# Altium schematic symbol library SchLib.SchLib: 41 symbols
Pins are listed as number, name and electrical type; pins without a type are passive.

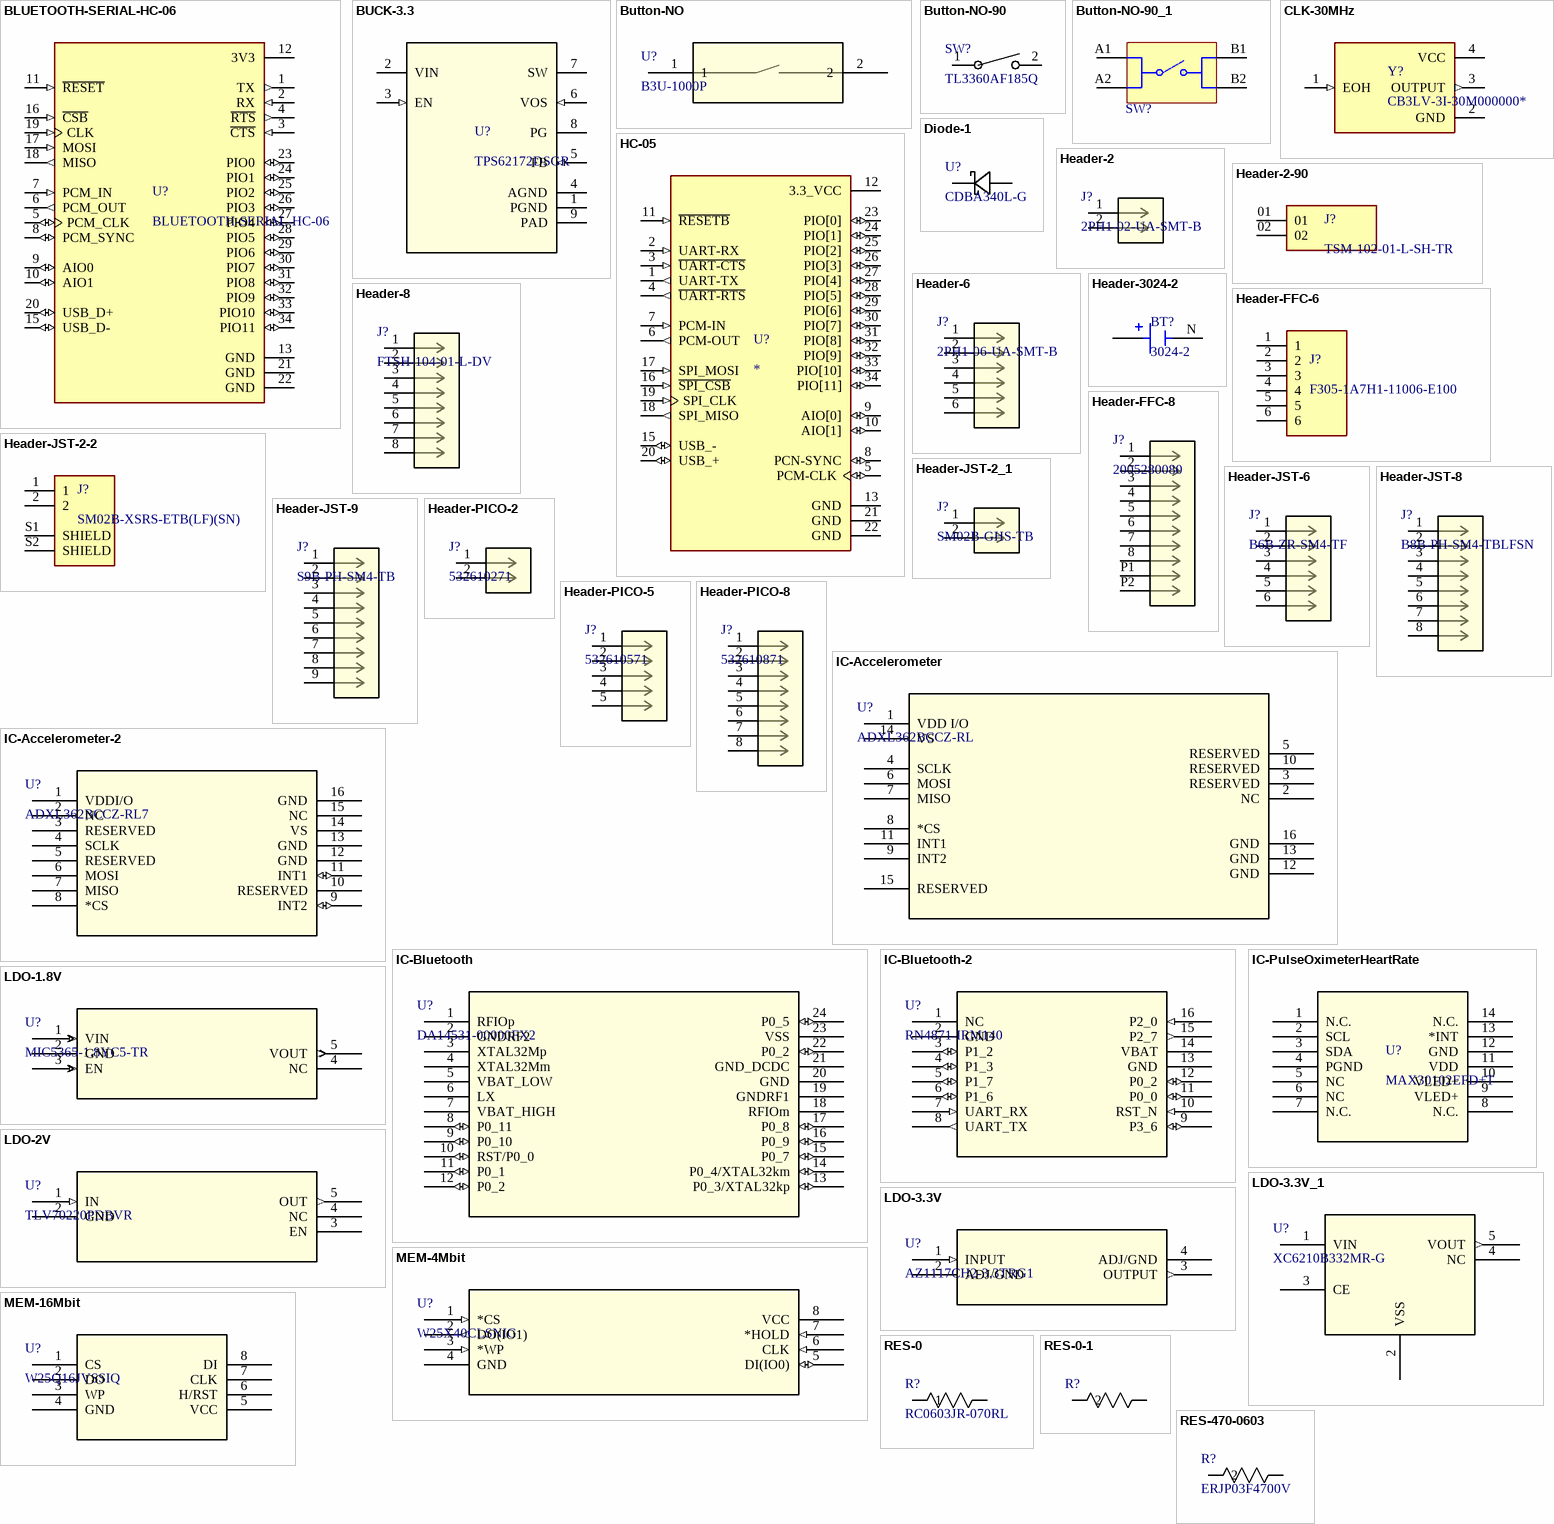
[diagram p0: symbols BLUETOOTH-SERIAL-HC-06 to RES-470-0603]

## BLUETOOTH-SERIAL-HC-06
designator U?
Bluetooth Modules (802.15.1) BLUETOOTH-SERIAL-HC-06; MF: Olimex; SnapEDA_Link: https://www.snapeda.com/parts/BLUETOOTH-SERIAL-HC-06/Olimex/view-part/?ref=snap; Package: None; Value: *; MP: BLUETOOTH-SERIAL-HC-06; Check_prices: https://www.snapeda.com/parts/BLUETOOTH-SERIAL-HC-06/Olimex/view-part/?ref=eda; ComponentLink1Description: Datasheet; ComponentLink1URL: https://pdf.dzsc.com/99999/2013328164949722.pdf
footprint XCVR_BLUETOOTH-SERIAL-HC-06
pins: 1 TX (out), 2 RX (in), 3 ~{CTS} (in), 4 ~{RTS} (out), 5 PCM_CLK (io), 6 PCM_OUT (out), 7 PCM_IN (in), 8 PCM_SYNC (io), 9 AIO0 (io), 10 AIO1 (io), 11 ~{RESET} (in), 12 3V3 (power), 13 GND (power), 15 USB_D- (io), 16 ~{CSB} (in), 17 MOSI (in), 18 MISO (out), 19 CLK (in), 20 USB_D+ (io), 21 GND (power), 22 GND (power), 23 PIO0 (io), 24 PIO1 (io), 25 PIO2 (io), 26 PIO3 (io), 27 PIO4 (io), 28 PIO5 (io), 29 PIO6 (io), 30 PIO7 (io), 31 PIO8 (io), 32 PIO9 (io), 33 PIO10 (io), 34 PIO11 (io)

## BUCK-3.3
designator U?, comment TPS62172DSGR
No Description Available; Mfr_Name: Texas Instruments; TYPE: TYPE; RefDes: RefDes; ComponentLink1Description: Datasheet; ComponentLink1URL: https://www.ti.com/lit/ds/symlink/tps62171.pdf?HQS=dis-dk-null-digikeymode-dsf-pf-null-wwe&ts=1742685058074&ref_url=https%253A%252F%252Fwww.ti.com%252Fgeneral%252Fdocs%252Fsuppproductinfo.tsp%253FdistId%253D10%2526gotoUrl%253Dhttps%253A%252F%252Fwww.ti.com%252Flit%252Fgpn%252Ftps62171
footprint DSG0008A_NV
pins: 1 PGND (power), 2 VIN (power), 3 EN (in), 4 AGND (power), 5 FB (in), 6 VOS (in), 7 SW (power), 8 PG (hiz), 9 PAD (power)

## Button-NO
designator U?, comment B3U-1000P
No Description Available; Mfr_Name: Omron; RefDes: RefDes; Type: Type; ComponentLink1Description: Datasheet; ComponentLink1URL: https://omronfs.omron.com/en_US/ecb/products/pdf/en-b3u.pdf
footprint B3U-1000P
pins: 1, 2

## Button-NO-90
designator SW?, comment TL3360AF185Q
No Description Available; Mfr_Name: E-Switch; ComponentLink1Description: Datasheet; ComponentLink1URL: https://configured-product-images.s3.amazonaws.com/Datasheets/TL3360.pdf
footprint SW_TL3360AF185Q_EWI
pins: 1, 2

## Button-NO-90_1
designator SW?, comment 434351045816  (value not drawn)
WS-TASU SMT Tact Switch 4.7x3.5mm side push, SPST-NO, 12VDC, 50mA, 160g; Manufacturer: Wurth Elektronik; Washable: No; ComponentLink1Description: Website Link; ComponentLink1URL: https://www.we-online.com/redexpert/article/434351045816?ad; ComponentLink2Description: Datasheet Link; ComponentLink2URL: https://www.we-online.com/redexpert/spec/434351045816?ad; Manufacturer Part Number: 434351045816; Category: Tact Switches; Match Code: WS-TASU; Mount: Surface Mount; Operating Temperature Max: 85°C; Operating Temperature Min: -40°C; Packaging: Tape and Reel; Length: 4.7mm; Width: 3.5mm; Height: 1.65mm; Circuit: SPST-NO; Contact Material: Stainless Steel; Contact Plating: Silver; Operation Force: 160g; Rated Current: 50mA; Rated Voltage: 12VDC; Terminal Material: Copper Alloy; Terminal Plating: Silver
footprint 434351045816
pins: A1, A2, B1, B2

## CLK-30MHz
designator Y?, comment CB3LV-3I-30M000000*
30 MHz XO (Standard) HCMOS, TTL Oscillator 3.3V Enable/Disable 4-SMD, No Lead; MF: {'manufacturer': u'CTS-Frequency Controls'}; Package: None; Price: None; Value: *; MP: CB3LV-3I-30M000000; Availability: Unavailable; ComponentLink1Description: Datasheet; ComponentLink1URL: https://www.ctscorp.com/Files/DataSheets/Passives/FCP/Clock-Oscillators/clock-ocillators-CB3_CB3LV-datasheet.pdf
footprint OSC_CB3LV-3I-30M000000
pins: 1 EOH (in), 2 GND (power), 3 OUTPUT (out), 4 VCC (power)

## Diode-1
designator U?, comment CDBA340L-G
Diode 40 V 3A Surface Mount DO-214AC (SMA); Mfr_Name: Comchip; ComponentLink1Description: Datasheet; ComponentLink1URL: https://mm.digikey.com/Volume0/opasdata/d220001/medias/docus/2443/CDBA320L-G%20%7E%20CDBA340L-G.pdf
footprint CDBA-G-M
pins: 1, 2

## HC-05
designator U?
Bluetooth to Serial Port Module; MF: ITead Studio; MP: HC-05; SnapEDA_Link: https://www.snapeda.com/parts/HC-05/ITEAD/view-part/?ref=snap; Package: Module ITead Studio; Value: *; Check_prices: https://www.snapeda.com/parts/HC-05/ITEAD/view-part/?ref=eda; ComponentLink1Description: Datasheet; ComponentLink1URL: https://components101.com/sites/default/files/component_datasheet/HC06%20Bluetooth%20Module%20Datasheet.pdf; ComponentLink2Description: Datasheet2; ComponentLink2URL: https://dcc-ex.com/reference/hardware/bluetooth/hc-05-06.html#gsc.tab=0
footprint XCVR_HC-05
pins: 1 UART-TX (out), 2 UART-RX (in), 3 ~{UART-CTS} (in), 4 ~{UART-RTS} (out), 5 PCM-CLK (io), 6 PCM-OUT (out), 7 PCM-IN (in), 8 PCN-SYNC (io), 9 AIO[0] (io), 10 AIO[1] (io), 11 ~{RESETB} (in), 12 3.3_VCC (power), 13 GND (power), 15 USB_- (io), 16 ~{SPI_CSB} (in), 17 SPI_MOSI (in), 18 SPI_MISO (out), 19 SPI_CLK (in), 20 USB_+ (io), 21 GND (power), 22 GND (power), 23 PIO[0] (io), 24 PIO[1] (io), 25 PIO[2] (io), 26 PIO[3] (io), 27 PIO[4] (io), 28 PIO[5] (io), 29 PIO[6] (io), 30 PIO[7] (io), 31 PIO[8] (io), 32 PIO[9] (io), 33 PIO[10] (io), 34 PIO[11] (io)

## Header-2
designator J?, comment 2PH1-02-UA-SMT-B
No Description Available; Mfr_Name: ADAM TECHNOLOGIES INC; RefDes: RefDes; Type: Type; ComponentLink1Description: Datasheet; ComponentLink1URL: https://app.adam-tech.com/products/download/data_sheet/200347/2ph1-xx-ua-smt-b-data-sheet.pdf
footprint CONN_2PH1-02-UA-SMT-B_ADM
pins: 1, 2

## Header-2-90
designator J?, comment TSM-102-01-L-SH-TR
MF: Samtec; Price: None; Availability: Unavailable; Package: None; MP: TSM-102-01-L-SH-TR; Value: *; ComponentLink1Description: Datasheet; ComponentLink1URL: https://suddendocs.samtec.com/catalog_english/tsm.pdf
footprint SAMTEC_TSM-102-01-L-SH-TR
pins: 01, 02

## Header-6
designator J?, comment 2PH1-06-UA-SMT-B
No Description Available; Mfr_Name: ADAM TECHNOLOGIES INC; RefDes: RefDes; Type: Type; ComponentLink1Description: Datasheet; ComponentLink1URL: https://app.adam-tech.com/products/download/data_sheet/200347/2ph1-xx-ua-smt-b-data-sheet.pdf
footprint CONN_2PH1_ADM
pins: 1, 2, 3, 4, 5, 6

## Header-8
designator J?, comment FTSH-104-01-L-DV
No Description Available; Mfr_Name: Samtec Inc; RefDes: RefDes; Type: Type; ComponentLink1Description: Datasheet; ComponentLink1URL: https://suddendocs.samtec.com/prints/ftsh-1xx-xx-xxx-dv-xxx-xxx-x-xx-mkt.pdf
footprint CON8_2X4_DU_FTSH_SAI
pins: 1, 2, 3, 4, 5, 6, 7, 8

## Header-3024-2
designator BT?, comment 3024-2
Price: None; MP: 3024-2; Package: None; Value: *; Availability: Unavailable; ComponentLink1Description: Datasheet; ComponentLink1URL: https://www.keyelco.com/userAssets/file/M65p8.pdf
footprint BAT_3024-2
pins: N NEG, P1 POS, P2 POS

## Header-FFC-6
designator J?, comment F305-1A7H1-11006-E100
Flex Connector, 0.50mm Pitch, Height 2.00mm, Right angle, Flip type, ZIF, 6 position, With MYLAR; MF: Amphenol ICC (FCI); Package: None; Price: None; Check_prices: https://www.snapeda.com/parts/F305-1A7H1-11006-E100/Amphenol+FCI/view-part/?ref=eda; Value: *; SnapEDA_Link: https://www.snapeda.com/parts/F305-1A7H1-11006-E100/Amphenol+FCI/view-part/?ref=snap; MP: F305-1A7H1-11006-E100; Availability: In Stock; Purchase-URL: https://pricing.snapeda.com/search/part/F305-1A7H1-11006-E100/?ref=eda; ComponentLink1Description: Datasheet; ComponentLink1URL: https://cdn.amphenol-cs.com/media/wysiwyg/files/documentation/datasheet/flex/ffc_fpc_050mm_f305.pdf
footprint AMPHENOL_F305-1A7H1-11006-E100
pins: 1, 2, 3, 4, 5, 6

## Header-FFC-8
designator J?, comment 2005280080
No Description Available; Mfr_Name: Molex Connector Corporation; RefDes: RefDes; Type: Type; ComponentLink1Description: Datasheet; ComponentLink1URL: https://tools.molex.com/pdm_docs/ps/2005280000.pdf
footprint CON_2005280080_MOL
pins: 1, 2, 3, 4, 5, 6, 7, 8, P1, P2

## Header-JST-2-2
designator J?, comment SM02B-XSRS-ETB(LF)(SN)
Connector Header Surface Mount, Right Angle position 0.024 (0.60mm); MF: JST Sales; Package: None; Digi-Key_Part_Number: 455-3941-1-ND; Purchase-URL: https://pricing.snapeda.com/search/part/SM02B-XSRS-ETB(LF)(SN)/?ref=eda; Value: *; SnapEDA_Link: https://www.snapeda.com/parts/SM02B-XSRS-ETB(LF)(SN)/JST+Sales+America+Inc./view-part/?ref=snap; Check_prices: https://www.snapeda.com/parts/SM02B-XSRS-ETB(LF)(SN)/JST+Sales+America+Inc./view-part/?ref=eda; MP: SM02B-XSRS-ETB(LF)(SN); ComponentLink1Description: Datasheet; ComponentLink1URL: https://www.jst-mfg.com/product/pdf/eng/eXSR.pdf
footprint JST_SM02B-XSRS-ETB(LF)(SN)
pins: 1, 2, S1 SHIELD, S2 SHIELD

## Header-JST-2_1
designator J?, comment SM02B-GHS-TB
No Description Available; Mfr_Name: JST; RefDes: RefDes; Type: Type; ComponentLink1Description: Datasheet; ComponentLink1URL: https://www.jst-mfg.com/product/pdf/eng/eGH.pdf
footprint CONN_SM02B-GHS_JST
pins: 1, 2

## Header-JST-6
designator J?, comment B6B-ZR-SM4-TF
No Description Available; Mfr_Name: JST; RefDes: RefDes; Type: Type; ComponentLink1Description: Datasheet; ComponentLink1URL: https://www.jst-mfg.com/product/pdf/eng/eZH.pdf
footprint CONN_B6B-ZR-SM4-TF_JST
pins: 1, 2, 3, 4, 5, 6

## Header-JST-8
designator J?, comment B8B-PH-SM4-TBLFSN
No Description Available; Mfr_Name: JST; Type: Headers, Male Pins; RefDes: RefDes; ComponentLink1Description: Datasheet; ComponentLink1URL: https://www.jst-mfg.com/product/pdf/eng/ePH.pdf
footprint CONN_B8B-PH-SM4-TB_JST - duplicate
pins: 1, 2, 3, 4, 5, 6, 7, 8

## Header-JST-9
designator J?, comment S9B-PH-SM4-TB
No Description Available; Mfr_Name: JST; RefDes: RefDes; Type: Type; ComponentLink1Description: Datasheet; ComponentLink1URL: https://www.jst-mfg.com/product/pdf/eng/ePH.pdf
footprint CONN_S9B-PH-SM4-TB_JST
pins: 1, 2, 3, 4, 5, 6, 7, 8, 9

## Header-PICO-2
designator J?, comment 532610271
No Description Available; Mfr_Name: Molex Connector Corporation; RefDes: RefDes; Type: Type; ComponentLink1Description: Datasheet; ComponentLink1URL: https://www.molex.com/content/dam/molex/molex-dot-com/products/automated/en-us/salesdrawingpdf/532/53261/532610271_sd.pdf?inline
footprint CONN_532610001-SD_02_MOL
pins: 1, 2

## Header-PICO-5
designator J?, comment 532610571
No Description Available; Mfr_Name: Molex Connector Corporation; RefDes: RefDes; Type: Type; ComponentLink1Description: Datasheet; ComponentLink1URL: https://www.molex.com/content/dam/molex/molex-dot-com/products/automated/en-us/salesdrawingpdf/532/53261/532610571_sd.pdf?inline
footprint CONN_532610001-SD_05_MOL
pins: 1, 2, 3, 4, 5

## Header-PICO-8
designator J?, comment 532610871
No Description Available; Mfr_Name: Molex Connector Corporation; RefDes: RefDes; Type: Type; ComponentLink1Description: Datasheet; ComponentLink1URL: https://www.molex.com/content/dam/molex/molex-dot-com/products/automated/en-us/salesdrawingpdf/532/53261/532610871_sd.pdf?inline
footprint CONN_532610001-SD_08_MOL
pins: 1, 2, 3, 4, 5, 6, 7, 8

## IC-Accelerometer
designator U?, comment ADXL362BCCZ-RL
Accelerometer X, Y, Z Axis ±2g, 4g, 8g 6.25Hz ~ 400Hz 16-LGA (3x3.25); Mfr_Name: Analog Devices Inc; RefDes: RefDes; Type: Type; ComponentLink1Description: Datasheet; ComponentLink1URL: https://www.analog.com/media/en/technical-documentation/data-sheets/ADXL362.pdf
footprint LGA_CC-16-4_ADI
pins: 1 VDD I/O, 2 NC, 3 RESERVED, 4 SCLK, 5 RESERVED, 6 MOSI, 7 MISO, 8 *CS, 9 INT2, 10 RESERVED, 11 INT1, 12 GND, 13 GND, 14 VS, 15 RESERVED, 16 GND

## IC-Accelerometer-2
designator U?, comment ADXL362BCCZ-RL7
Accelerometer X, Y, Z Axis ±2g, 4g, 8g 6.25Hz ~ 400Hz 16-LGA (3x3.25); Mfr_Name: Analog Devices Inc; RefDes: RefDes; Type: Type; ComponentLink1Description: Datasheet; ComponentLink1URL: https://www.analog.com/media/en/technical-documentation/data-sheets/ADXL362.pdf
footprint LGA_CC-16-4_ADI
pins: 1 VDDI/O (power), 2 NC, 3 RESERVED, 4 SCLK, 5 RESERVED, 6 MOSI, 7 MISO, 8 *CS, 9 INT2 (io), 10 RESERVED, 11 INT1 (io), 12 GND (power), 13 GND (power), 14 VS, 15 NC, 16 GND (power)

## IC-Bluetooth
designator U?, comment DA14531-00000FX2
IC RF TxRx + MCU Bluetooth Bluetooth v5.1 2.4GHz 24-WFQFN, FC; Mfr_Name: Renesas Electronics; RefDes: RefDes; Type: Type; ComponentLink1Description: Datasheet; ComponentLink1URL: https://www.renesas.com/en/document/dst/da14531-datasheet?r=1564826
footprint FCGQFN24_2.2X3.0_REN
pins: 1 RFIOp, 2 GNDRF2 (power), 3 XTAL32Mp, 4 XTAL32Mm, 5 VBAT_LOW (power), 6 LX, 7 VBAT_HIGH (power), 8 P0_11 (io), 9 P0_10 (io), 10 RST/P0_0 (io), 11 P0_1 (io), 12 P0_2 (io), 13 P0_3/XTAL32kp (io), 14 P0_4/XTAL32km (io), 15 P0_7 (io), 16 P0_9 (io), 17 P0_8 (io), 18 RFIOm, 19 GNDRF1 (power), 20 GND (power), 21 GND_DCDC (power), 22 P0_2 (io), 23 VSS (power), 24 P0_5 (io)

## IC-Bluetooth-2
designator U?, comment RN4871-IRM140
Bluetooth Bluetooth v5.0 Transceiver Module 2.402GHz ~ 2.48GHz Integrated, Chip Surface Mount; Mfr_Name: Microchip; RefDes: RefDes; Type: Type; ComponentLink1Description: Datasheet; ComponentLink1URL: https://ww1.microchip.com/downloads/aemDocuments/documents/WSG/ProductDocuments/DataSheets/RN4870-71-Bluetooth-Low-Energy-Module-DS50002489.pdf
footprint RN4871_MCH
pins: 1 NC, 2 GND (power), 3 P1_2 (io), 4 P1_3 (io), 5 P1_7 (io), 6 P1_6 (io), 7 UART_RX (in), 8 UART_TX (out), 9 P3_6 (io), 10 RST_N (in), 11 P0_0 (io), 12 P0_2 (io), 13 GND (power), 14 VBAT (power), 15 P2_7 (out), 16 P2_0 (in)

## IC-PulseOximeterHeartRate
designator U?, comment MAX30102EFD+T
Pulse Oximeter and Heart Rate Sensor Digital Output; MF: Maxim Integrated Products; Digi-Key_Part_Number: MAX30102EFD+TTR-ND; Check_prices: https://www.snapeda.com/parts/MAX30102EFD+T/Maxim+Integrated/view-part/?ref=eda; MP: MAX30102EFD+T; Package: None; SnapEDA_Link: https://www.snapeda.com/parts/MAX30102EFD+T/Maxim+Integrated/view-part/?ref=snap; Value: *; Purchase-URL: https://pricing.snapeda.com/search/part/MAX30102EFD+T/?ref=eda; ComponentLink1Description: Datasheet; ComponentLink1URL: https://cdn.sparkfun.com/assets/8/3/c/3/2/MAX30102_Datasheet.pdf
footprint XDCR_MAX30101EFD+
pins: 1 N.C., 2 SCL, 3 SDA, 4 PGND (power), 5 NC, 6 NC, 7 N.C., 8 N.C., 9 VLED+, 10 VLED+, 11 VDD (power), 12 GND (power), 13 *INT, 14 N.C.

## LDO-1.8V
designator U?, comment MIC5365-1.8YC5-TR
Linear Voltage Regulator IC Positive Fixed 1 Output 150mA SC-70-5; Mfr_Name: Microchip; RefDes: RefDes; Type: Type; ComponentLink1Description: Datasheet; ComponentLink1URL: https://ww1.microchip.com/downloads/en/DeviceDoc/mic5365.pdf
footprint SC-70_C5_MCH
pins: 1 VIN (in), 2 GND (power), 3 EN (in), 4 NC, 5 VOUT (out)

## LDO-2V
designator U?, comment TLV70220PDBVR
Linear Voltage Regulator IC Positive Fixed 1 Output 300mA SOT-23-5; Mfr_Name: Texas Instruments; RefDes: RefDes; Type: Type; ComponentLink1Description: Datasheet; ComponentLink1URL: https://www.ti.com/general/docs/suppproductinfo.tsp?distId=10&gotoUrl=https%3A%2F%2Fwww.ti.com%2Flit%2Fgpn%2Ftlv702
footprint DBV5
pins: 1 IN (in), 2 GND (power), 3 EN, 4 NC, 5 OUT (out)

## LDO-3.3V
designator U?, comment AZ1117CH2-3.3TRG1
Linear Voltage Regulator IC Positive Fixed 1 Output 1A SOT-223-3; Mfr_Name: Diodes Inc; RefDes: RefDes; Type: Type; ComponentLink1Description: Datasheet; ComponentLink1URL: https://www.diodes.com/assets/Datasheets/AZ1117C.pdf
footprint SOT223_DIO
pins: 1 INPUT (in), 2 ADJ/GND (power), 3 OUTPUT (out), 4 ADJ/GND (power)

## LDO-3.3V_1
designator U?, comment XC6210B332MR-G
Linear Voltage Regulator IC Positive Fixed 1 Output 700mA SOT-25-5; Mfr_Name: Torex Semiconductor; RefDes: RefDes; Type: Type; ComponentLink1Description: Datasheet; ComponentLink1URL: https://product.torexsemi.com/system/files/series/xc6210.pdf
footprint SOT-25_TOR
pins: 1 VIN (power), 2 VSS (power), 3 CE, 4 NC, 5 VOUT (out)

## MEM-4Mbit
designator U?, comment W25X40CLSNIG
FLASH Memory IC 4Mbit SPI 104 MHz 8-SOIC; Mfr_Name: Winbond; RefDes: RefDes; Type: Type; ComponentLink1Description: Datasheet; ComponentLink1URL: https://www.winbond.com/resource-files/w25x40cl_f%2020140325.pdf
footprint WIN_SN-8_WIN-M
pins: 1 *CS (in), 2 DO(IO1) (out), 3 *WP (in), 4 GND (power), 5 DI(IO0) (io), 6 CLK (in), 7 *HOLD (in), 8 VCC (power)

## MEM-16Mbit
designator U?, comment W25Q16JVSSIQ
FLASH - NOR Memory IC 16Mbit SPI - Quad I/O 133 MHz 8-SOIC; Mfr_Name: Winbond; RefDes: RefDes; Type: Type; ComponentLink1Description: Datasheet; ComponentLink1URL: https://www.winbond.com/resource-files/w25q16jv%20spi%20revg%2003222018%20plus.pdf
footprint W25Q16JVSSIQ_WIN-M
pins: 1 CS, 2 DO, 3 WP, 4 GND, 5 VCC, 6 H/RST, 7 CLK, 8 DI

## RES-0
designator R?, comment RC0603JR-070RL
0 Ohms Jumper Chip Resistor 0603 (1608 Metric) Moisture Resistant Thick Film; Mfr_Name: Yageo; ComponentLink1Description: Datasheet; ComponentLink1URL: https://www.yageo.com/upload/media/product/products/datasheet/rchip/PYu-RC_Group_51_RoHS_L_12.pdf
footprint RC0603N_YAG
pins: 1, 2

## RES-0-1
designator R?, comment CRCW12100000Z0EA  (value not drawn)
No Description Available; Mfr_Name: Vishay; ComponentLink1Description: Datasheet; ComponentLink1URL: https://www.vishay.com/docs/20035/dcrcwe3.pdf
footprint RES_CRCW_1210_VIS
pins: 1, 2

## RES-470-0603
designator R?, comment ERJP03F4700V
470 Ohms ±1% 0.2W, 1/5W Chip Resistor 0603 (1608 Metric) Automotive AEC-Q200, Pulse Withstanding Thick Film; Mfr_Name: Panasonic; ComponentLink1Description: Datasheet; ComponentLink1URL: https://industrial.panasonic.com/cdbs/www-data/pdf/RDO0000/AOA0000C331.pdf
footprint RES_ERJP03_PAN
pins: 1, 2

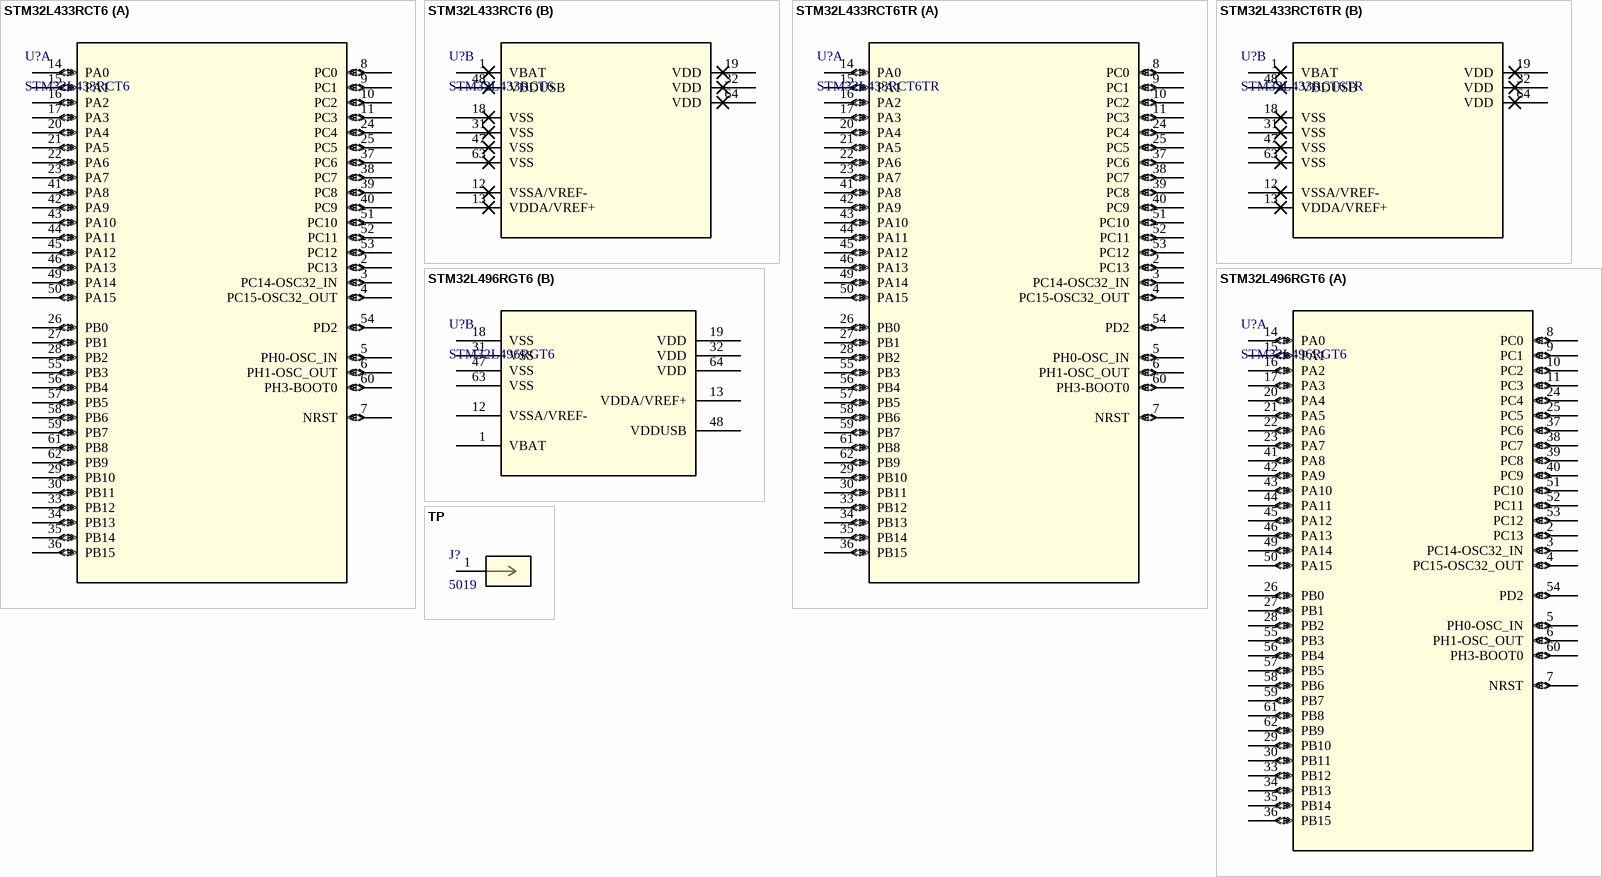
[diagram p1: symbols STM32L433RCT6 to TP]

## STM32L433RCT6
designator U?
ARM® Cortex®-M4 STM32L4 Microcontroller IC 32-Bit Single-Core 80MHz 256KB (256K x 8) FLASH 64-LQFP (10x10); Mfr_Name: STMicroelectronics; RefDes: RefDes; Type: Type; ComponentLink1Description: Datasheet; ComponentLink1URL: https://www.st.com/content/ccc/resource/technical/document/datasheet/f7/a0/fc/27/24/4e/4f/3f/DM00257192.pdf/files/DM00257192.pdf/jcr:content/translations/en.DM00257192.pdf
footprint LQFP64-10x10mm
part A pins: 2 PC13 (io), 3 PC14-OSC32_IN (io), 4 PC15-OSC32_OUT (io), 5 PH0-OSC_IN (io), 6 PH1-OSC_OUT (io), 7 NRST (io), 8 PC0 (io), 9 PC1 (io), 10 PC2 (io), 11 PC3 (io), 14 PA0 (io), 15 PA1 (io), 16 PA2 (io), 17 PA3 (io), 20 PA4 (io), 21 PA5 (io), 22 PA6 (io), 23 PA7 (io), 24 PC4 (io), 25 PC5 (io), 26 PB0 (io), 27 PB1 (io), 28 PB2 (io), 29 PB10 (io), 30 PB11 (io), 33 PB12 (io), 34 PB13 (io), 35 PB14 (io), 36 PB15 (io), 37 PC6 (io), 38 PC7 (io), 39 PC8 (io), 40 PC9 (io), 41 PA8 (io), 42 PA9 (io), 43 PA10 (io), 44 PA11 (io), 45 PA12 (io), 46 PA13 (io), 49 PA14 (io), 50 PA15 (io), 51 PC10 (io), 52 PC11 (io), 53 PC12 (io), 54 PD2 (io), 55 PB3 (io), 56 PB4 (io), 57 PB5 (io), 58 PB6 (io), 59 PB7 (io), 60 PH3-BOOT0 (io), 61 PB8 (io), 62 PB9 (io)
part B pins: 1 VBAT (power), 12 VSSA/VREF- (power), 13 VDDA/VREF+ (power), 18 VSS (power), 19 VDD (power), 31 VSS (power), 32 VDD (power), 47 VSS (power), 48 VDDUSB (power), 63 VSS (power), 64 VDD (power)

## STM32L433RCT6TR
designator U?
ARM® Cortex®-M4 STM32L4 Microcontroller IC 32-Bit Single-Core 80MHz 256KB (256K x 8) FLASH 64-LQFP (10x10); Mfr_Name: STMicroelectronics; RefDes: RefDes; Type: Type; ComponentLink1Description: Datasheet; ComponentLink1URL: https://www.st.com/content/ccc/resource/technical/document/datasheet/f7/a0/fc/27/24/4e/4f/3f/DM00257192.pdf/files/DM00257192.pdf/jcr:content/translations/en.DM00257192.pdf
footprint LQFP64-10x10mm
part A pins: 2 PC13 (io), 3 PC14-OSC32_IN (io), 4 PC15-OSC32_OUT (io), 5 PH0-OSC_IN (io), 6 PH1-OSC_OUT (io), 7 NRST (io), 8 PC0 (io), 9 PC1 (io), 10 PC2 (io), 11 PC3 (io), 14 PA0 (io), 15 PA1 (io), 16 PA2 (io), 17 PA3 (io), 20 PA4 (io), 21 PA5 (io), 22 PA6 (io), 23 PA7 (io), 24 PC4 (io), 25 PC5 (io), 26 PB0 (io), 27 PB1 (io), 28 PB2 (io), 29 PB10 (io), 30 PB11 (io), 33 PB12 (io), 34 PB13 (io), 35 PB14 (io), 36 PB15 (io), 37 PC6 (io), 38 PC7 (io), 39 PC8 (io), 40 PC9 (io), 41 PA8 (io), 42 PA9 (io), 43 PA10 (io), 44 PA11 (io), 45 PA12 (io), 46 PA13 (io), 49 PA14 (io), 50 PA15 (io), 51 PC10 (io), 52 PC11 (io), 53 PC12 (io), 54 PD2 (io), 55 PB3 (io), 56 PB4 (io), 57 PB5 (io), 58 PB6 (io), 59 PB7 (io), 60 PH3-BOOT0 (io), 61 PB8 (io), 62 PB9 (io)
part B pins: 1 VBAT (power), 12 VSSA/VREF- (power), 13 VDDA/VREF+ (power), 18 VSS (power), 19 VDD (power), 31 VSS (power), 32 VDD (power), 47 VSS (power), 48 VDDUSB (power), 63 VSS (power), 64 VDD (power)

## STM32L496RGT6
designator U?
ARM® Cortex®-M4 STM32L4 Microcontroller IC 32-Bit Single-Core 80MHz 1MB (1M x 8) FLASH 64-LQFP (10x10); Mfr_Name: STMicroelectronics; RefDes: RefDes; Type: Type; ComponentLink1Description: Datasheet; ComponentLink1URL: https://www.st.com/resource/en/datasheet/stm32l496ae.pdf
footprint LQFP64-10x10mm_STM
part A pins: 2 PC13 (io), 3 PC14-OSC32_IN (io), 4 PC15-OSC32_OUT (io), 5 PH0-OSC_IN (io), 6 PH1-OSC_OUT (io), 7 NRST (io), 8 PC0 (io), 9 PC1 (io), 10 PC2 (io), 11 PC3 (io), 14 PA0 (io), 15 PA1 (io), 16 PA2 (io), 17 PA3 (io), 20 PA4 (io), 21 PA5 (io), 22 PA6 (io), 23 PA7 (io), 24 PC4 (io), 25 PC5 (io), 26 PB0 (io), 27 PB1 (io), 28 PB2 (io), 29 PB10 (io), 30 PB11 (io), 33 PB12 (io), 34 PB13 (io), 35 PB14 (io), 36 PB15 (io), 37 PC6 (io), 38 PC7 (io), 39 PC8 (io), 40 PC9 (io), 41 PA8 (io), 42 PA9 (io), 43 PA10 (io), 44 PA11 (io), 45 PA12 (io), 46 PA13 (io), 49 PA14 (io), 50 PA15 (io), 51 PC10 (io), 52 PC11 (io), 53 PC12 (io), 54 PD2 (io), 55 PB3 (io), 56 PB4 (io), 57 PB5 (io), 58 PB6 (io), 59 PB7 (io), 60 PH3-BOOT0 (io), 61 PB8 (io), 62 PB9 (io)
part B pins: 1 VBAT (power), 12 VSSA/VREF- (power), 13 VDDA/VREF+ (power), 18 VSS (power), 19 VDD (power), 31 VSS (power), 32 VDD (power), 47 VSS (power), 48 VDDUSB (power), 63 VSS (power), 64 VDD (power)

## TP
designator J?, comment 5019
PC Test Point, Miniature Phosphor Bronze Silver Plating Surface Mount Mounting Type; Mfr_Name: Keystone Electronics; RefDes: RefDes; Type: Type; ComponentLink1Description: Digikey; ComponentLink1URL: https://www.digikey.com/en/products/detail/keystone-electronics/5019/3907344
footprint CONN1_5019_KEY
pins: 1